# Altium footprint library KF2510.PcbLib: 16 footprints
Each footprint in its own frame and in the unit in brackets; x right, y up, seen from the top. Pads: shape width x height; smd on the part's side, far side on the other; paste and mask are expansions set on the pad; w line width, h text height; cw(c..) or ccw(c..) is an arc to the next point about the centre after c.
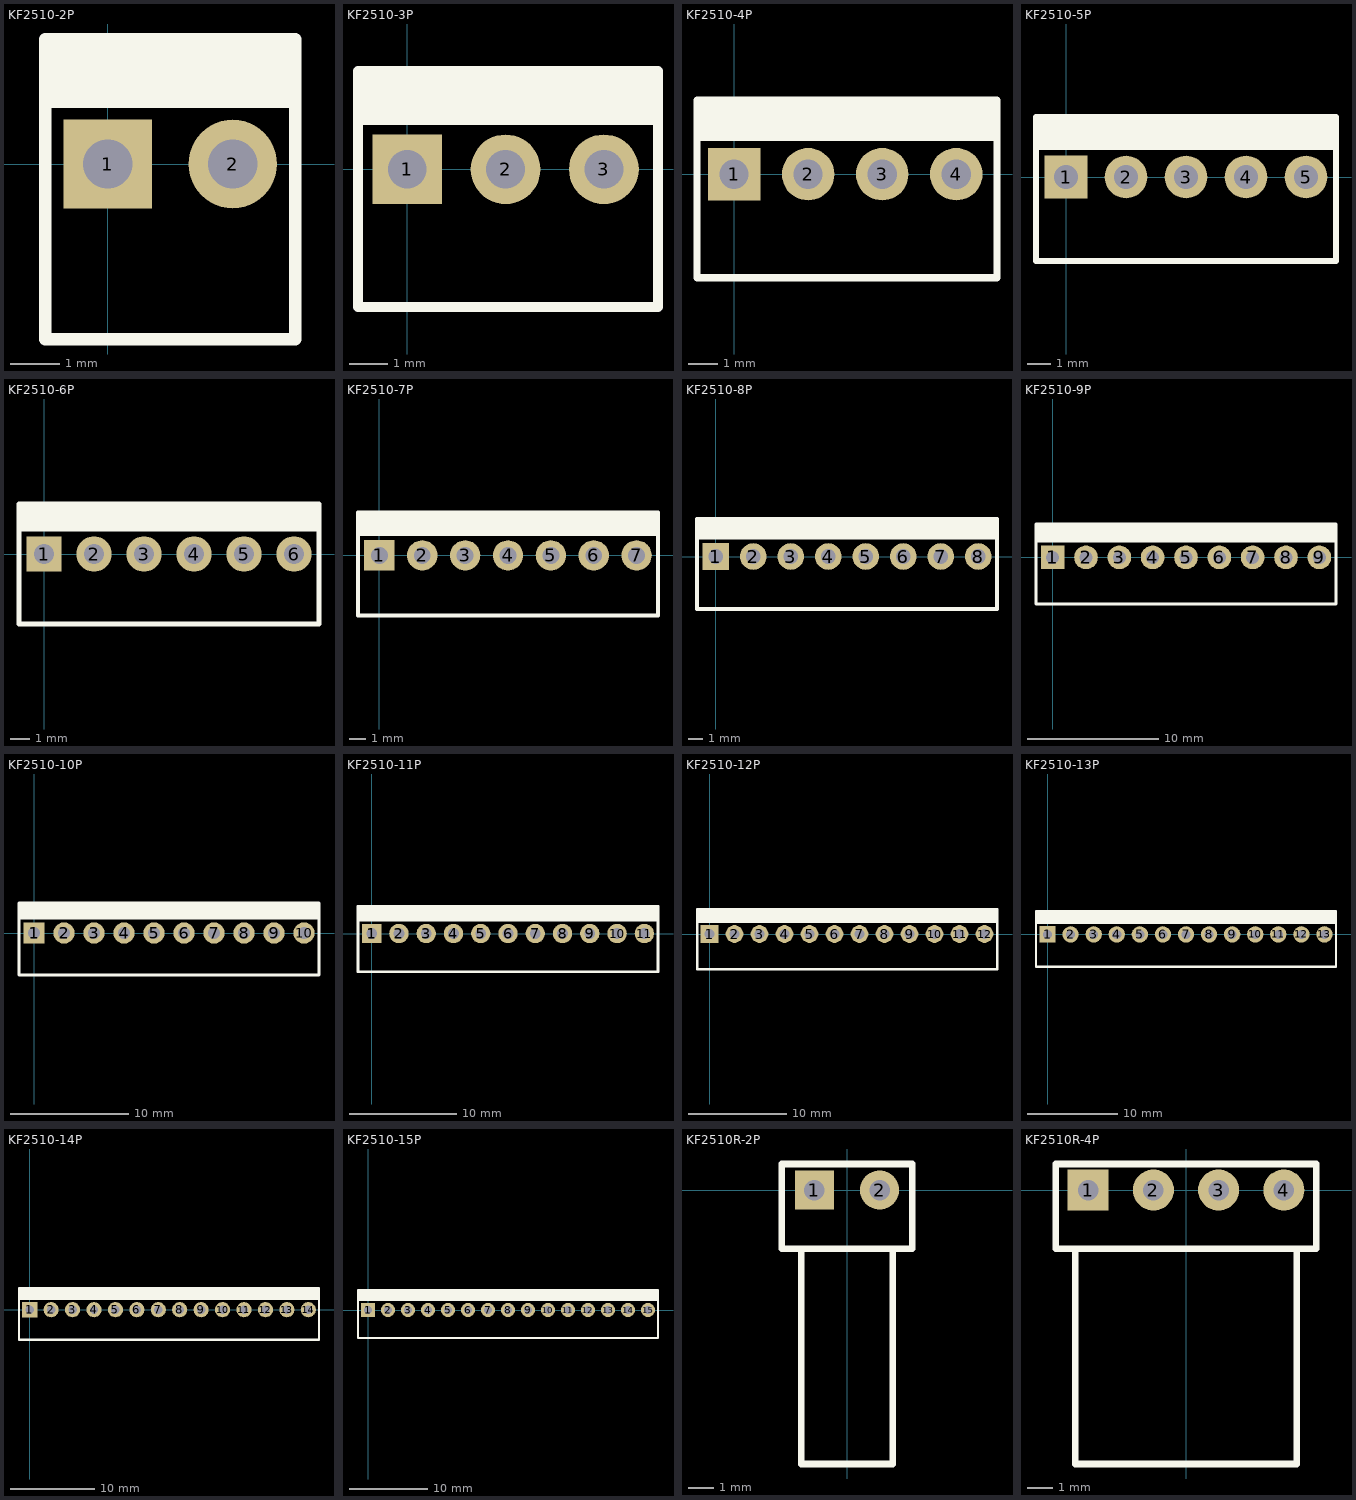
[diagram p0: the footprints below, top view; thin cyan lines are the x and y axes]

## KF2510-2P [mm]
height 11
pads (2):
  rect 1.8x1.8 hole 1: 1(0,0)
  round 1.8 hole 1: 2(2.54,0)
Top Overlay:
  rectangle: -1.321,1.27 3.759,2.54
  lines w0.254: -1.27,1.27 3.759,1.27 ; -1.27,-3.556 -1.27,2.54 3.81,2.54 3.81,-3.556 -1.27,-3.556
3D body "KF2510.STEP": height 11.05, standoff -2.95, extent 1.27,-3.585 3.81,2.315
3D body "KF2510.STEP": height 11.05, standoff -2.95, extent -1.27,-3.585 1.27,2.315

## KF2510-3P [mm]
pads (3):
  rect 1.8x1.8 hole 1: 1(0,0)
  round 1.8 hole 1: 2(2.54,0) 3(5.08,0)
Top Overlay:
  rectangle: -1.27,1.27 6.477,2.54
  lines w0.254: -1.27,1.27 6.477,1.27 ; -1.27,-3.556 -1.27,2.54 6.477,2.54 6.477,-3.556 -1.27,-3.556
3D body "KF2510.STEP": height 11.05, standoff -2.95, extent 3.81,-3.585 6.35,2.315
3D body "KF2510.STEP": height 11.05, standoff -2.95, extent -1.27,-3.585 1.27,2.315
3D body "KF2510.STEP": height 11.05, standoff -2.95, extent 1.27,-3.585 3.81,2.315

## KF2510-4P [mm]
pads (4):
  rect 1.8x1.8 hole 1: 1(0,0)
  round 1.8 hole 1: 2(2.54,0) 3(5.08,0) 4(7.62,0)
Top Overlay:
  rectangle: -1.27,1.27 9.017,2.54
  lines w0.254: -1.27,1.27 9.017,1.27 ; -1.27,-3.556 -1.27,2.54 9.017,2.54 9.017,-3.556 -1.27,-3.556
3D body "KF2510.STEP": height 11.05, standoff -2.95, extent 1.27,-3.585 3.81,2.315
3D body "KF2510.STEP": height 11.05, standoff -2.95, extent -1.27,-3.585 1.27,2.315
3D body "KF2510.STEP": height 11.05, standoff -2.95, extent 3.81,-3.585 6.35,2.315
3D body "KF2510.STEP": height 11.05, standoff -2.95, extent 6.35,-3.585 8.89,2.315

## KF2510-5P [mm]
pads (5):
  rect 1.8x1.8 hole 1: 1(0,0)
  round 1.8 hole 1: 2(2.54,0) 3(5.08,0) 4(7.62,0) 5(10.16,0)
Top Overlay:
  rectangle: -1.27,1.27 11.43,2.538
  lines w0.254: -1.27,1.27 11.43,1.27 ; -1.27,-3.556 -1.27,2.54 11.43,2.54 11.43,-3.556 -1.27,-3.556
3D body "KF2510.STEP": height 11.05, standoff -2.95, extent 6.35,-3.585 8.89,2.315
3D body "KF2510.STEP": height 11.05, standoff -2.95, extent 8.89,-3.585 11.43,2.315
3D body "KF2510.STEP": height 11.05, standoff -2.95, extent 3.81,-3.585 6.35,2.315
3D body "KF2510.STEP": height 11.05, standoff -2.95, extent -1.27,-3.585 1.27,2.315
3D body "KF2510.STEP": height 11.05, standoff -2.95, extent 1.27,-3.585 3.81,2.315

## KF2510-6P [mm]
pads (6):
  rect 1.8x1.8 hole 1: 1(0,0)
  round 1.8 hole 1: 2(2.54,0) 3(5.08,0) 4(7.62,0) 5(10.16,0) 6(12.7,0)
Top Overlay:
  rectangle: -1.27,1.27 13.97,2.54
  lines w0.254: -1.27,1.27 13.97,1.27 ; -1.27,-3.556 13.97,-3.556 13.97,2.54 -1.27,2.54 -1.27,-3.556
3D body "KF2510.STEP": height 11.05, standoff -2.95, extent 1.27,-3.585 3.81,2.315
3D body "KF2510.STEP": height 11.05, standoff -2.95, extent -1.27,-3.585 1.27,2.315
3D body "KF2510.STEP": height 11.05, standoff -2.95, extent 3.81,-3.585 6.35,2.315
3D body "KF2510.STEP": height 11.05, standoff -2.95, extent 8.89,-3.585 11.43,2.315
3D body "KF2510.STEP": height 11.05, standoff -2.95, extent 6.35,-3.585 8.89,2.315
3D body "KF2510.STEP": height 11.05, standoff -2.95, extent 11.43,-3.585 13.97,2.315

## KF2510-7P [mm]
pads (7):
  rect 1.8x1.8 hole 1: 1(0,0)
  round 1.8 hole 1: 2(2.54,0) 3(5.08,0) 4(7.62,0) 5(10.16,0) 6(12.7,0) 7(15.24,0)
Top Overlay:
  rectangle: -1.27,1.27 16.51,2.54
  lines w0.254: -1.27,1.27 16.51,1.27 ; -1.27,-3.556 16.51,-3.556 16.51,2.54 -1.27,2.54 -1.27,-3.556
3D body "KF2510.STEP": height 11.05, standoff -2.95, extent 1.27,-3.585 3.81,2.315
3D body "KF2510.STEP": height 11.05, standoff -2.95, extent -1.27,-3.585 1.27,2.315
3D body "KF2510.STEP": height 11.05, standoff -2.95, extent 3.81,-3.585 6.35,2.315
3D body "KF2510.STEP": height 11.05, standoff -2.95, extent 8.89,-3.585 11.43,2.315
3D body "KF2510.STEP": height 11.05, standoff -2.95, extent 6.35,-3.585 8.89,2.315
3D body "KF2510.STEP": height 11.05, standoff -2.95, extent 11.43,-3.585 13.97,2.315
3D body "KF2510.STEP": height 11.05, standoff -2.95, extent 13.97,-3.585 16.51,2.315

## KF2510-8P [mm]
pads (8):
  rect 1.8x1.8 hole 1: 1(0,0)
  round 1.8 hole 1: 2(2.54,0) 3(5.08,0) 4(7.62,0) 5(10.16,0) 6(12.7,0) 7(15.24,0) 8(17.78,0)
Top Overlay:
  rectangle: -1.27,1.27 19.05,2.54
  lines w0.254: -1.27,1.27 19.05,1.27 ; -1.27,-3.556 19.05,-3.556 19.05,2.54 -1.27,2.54 -1.27,-3.556
3D body "KF2510.STEP": height 11.05, standoff -2.95, extent 1.27,-3.585 3.81,2.315
3D body "KF2510.STEP": height 11.05, standoff -2.95, extent -1.27,-3.585 1.27,2.315
3D body "KF2510.STEP": height 11.05, standoff -2.95, extent 3.81,-3.585 6.35,2.315
3D body "KF2510.STEP": height 11.05, standoff -2.95, extent 8.89,-3.585 11.43,2.315
3D body "KF2510.STEP": height 11.05, standoff -2.95, extent 6.35,-3.585 8.89,2.315
3D body "KF2510.STEP": height 11.05, standoff -2.95, extent 11.43,-3.585 13.97,2.315
3D body "KF2510.STEP": height 11.05, standoff -2.95, extent 16.51,-3.585 19.05,2.315
3D body "KF2510.STEP": height 11.05, standoff -2.95, extent 13.97,-3.585 16.51,2.315

## KF2510-9P [mm]
pads (9):
  rect 1.8x1.8 hole 1: 1(0,0)
  round 1.8 hole 1: 2(2.54,0) 3(5.08,0) 4(7.62,0) 5(10.16,0) 6(12.7,0) 7(15.24,0) 8(17.78,0) 9(20.32,0)
Top Overlay:
  rectangle: -1.27,1.27 21.59,2.54
  lines w0.254: -1.27,1.27 21.59,1.27 ; -1.27,-3.556 -1.27,2.54 21.59,2.54 21.59,-3.556 -1.27,-3.556
3D body "KF2510.STEP": height 11.05, standoff -2.95, extent 19.05,-3.585 21.59,2.315
3D body "KF2510.STEP": height 11.05, standoff -2.95, extent 13.97,-3.585 16.51,2.315
3D body "KF2510.STEP": height 11.05, standoff -2.95, extent 16.51,-3.585 19.05,2.315
3D body "KF2510.STEP": height 11.05, standoff -2.95, extent 11.43,-3.585 13.97,2.315
3D body "KF2510.STEP": height 11.05, standoff -2.95, extent 6.35,-3.585 8.89,2.315
3D body "KF2510.STEP": height 11.05, standoff -2.95, extent 8.89,-3.585 11.43,2.315
3D body "KF2510.STEP": height 11.05, standoff -2.95, extent 3.81,-3.585 6.35,2.315
3D body "KF2510.STEP": height 11.05, standoff -2.95, extent -1.27,-3.585 1.27,2.315
3D body "KF2510.STEP": height 11.05, standoff -2.95, extent 1.27,-3.585 3.81,2.315

## KF2510-10P [mm]
pads (10):
  rect 1.8x1.8 hole 1: 1(0,0)
  round 1.8 hole 1: 2(2.54,0) 3(5.08,0) 4(7.62,0) 5(10.16,0) 6(12.7,0) 7(15.24,0) 8(17.78,0) 9(20.32,0) 10(22.86,0)
Top Overlay:
  rectangle: -1.27,1.27 24.13,2.54
  lines w0.254: -1.27,1.27 24.13,1.27 ; -1.27,-3.556 -1.27,2.54 24.13,2.54 24.13,-3.556 -1.27,-3.556
3D body "KF2510.STEP": height 11.05, standoff -2.95, extent 21.59,-3.585 24.13,2.315
3D body "KF2510.STEP": height 11.05, standoff -2.95, extent 19.05,-3.585 21.59,2.315
3D body "KF2510.STEP": height 11.05, standoff -2.95, extent 13.97,-3.585 16.51,2.315
3D body "KF2510.STEP": height 11.05, standoff -2.95, extent 16.51,-3.585 19.05,2.315
3D body "KF2510.STEP": height 11.05, standoff -2.95, extent 11.43,-3.585 13.97,2.315
3D body "KF2510.STEP": height 11.05, standoff -2.95, extent 6.35,-3.585 8.89,2.315
3D body "KF2510.STEP": height 11.05, standoff -2.95, extent 8.89,-3.585 11.43,2.315
3D body "KF2510.STEP": height 11.05, standoff -2.95, extent 3.81,-3.585 6.35,2.315
3D body "KF2510.STEP": height 11.05, standoff -2.95, extent -1.27,-3.585 1.27,2.315
3D body "KF2510.STEP": height 11.05, standoff -2.95, extent 1.27,-3.585 3.81,2.315

## KF2510-11P [mm]
pads (11):
  rect 1.8x1.8 hole 1: 1(0,0)
  round 1.8 hole 1: 2(2.54,0) 3(5.08,0) 4(7.62,0) 5(10.16,0) 6(12.7,0) 7(15.24,0) 8(17.78,0) 9(20.32,0) 10(22.86,0) 11(25.4,0)
Top Overlay:
  rectangle: -1.27,1.27 26.67,2.54
  lines w0.254: -1.27,1.27 26.67,1.27 ; -1.27,-3.556 26.67,-3.556 26.67,2.54 -1.27,2.54 -1.27,-3.556
3D body "KF2510.STEP": height 11.05, standoff -2.95, extent 21.59,-3.585 24.13,2.315
3D body "KF2510.STEP": height 11.05, standoff -2.95, extent 24.13,-3.585 26.67,2.315
3D body "KF2510.STEP": height 11.05, standoff -2.95, extent 19.05,-3.585 21.59,2.315
3D body "KF2510.STEP": height 11.05, standoff -2.95, extent 13.97,-3.585 16.51,2.315
3D body "KF2510.STEP": height 11.05, standoff -2.95, extent 16.51,-3.585 19.05,2.315
3D body "KF2510.STEP": height 11.05, standoff -2.95, extent 11.43,-3.585 13.97,2.315
3D body "KF2510.STEP": height 11.05, standoff -2.95, extent 6.35,-3.585 8.89,2.315
3D body "KF2510.STEP": height 11.05, standoff -2.95, extent 8.89,-3.585 11.43,2.315
3D body "KF2510.STEP": height 11.05, standoff -2.95, extent 3.81,-3.585 6.35,2.315
3D body "KF2510.STEP": height 11.05, standoff -2.95, extent -1.27,-3.585 1.27,2.315
3D body "KF2510.STEP": height 11.05, standoff -2.95, extent 1.27,-3.585 3.81,2.315

## KF2510-12P [mm]
pads (12):
  rect 1.8x1.8 hole 1: 1(0,0)
  round 1.8 hole 1: 2(2.54,0) 3(5.08,0) 4(7.62,0) 5(10.16,0) 6(12.7,0) 7(15.24,0) 8(17.78,0) 9(20.32,0) 10(22.86,0) 11(25.4,0) 12(27.94,0)
Top Overlay:
  rectangle: -1.27,1.27 29.21,2.54
  lines w0.254: -1.27,1.27 29.21,1.27 ; -1.27,-3.556 -1.27,2.54 29.21,2.54 29.21,-3.556 -1.27,-3.556
3D body "KF2510.STEP": height 11.05, standoff -2.95, extent 26.67,-3.585 29.21,2.315
3D body "KF2510.STEP": height 11.05, standoff -2.95, extent 21.59,-3.585 24.13,2.315
3D body "KF2510.STEP": height 11.05, standoff -2.95, extent 24.13,-3.585 26.67,2.315
3D body "KF2510.STEP": height 11.05, standoff -2.95, extent 19.05,-3.585 21.59,2.315
3D body "KF2510.STEP": height 11.05, standoff -2.95, extent 13.97,-3.585 16.51,2.315
3D body "KF2510.STEP": height 11.05, standoff -2.95, extent 16.51,-3.585 19.05,2.315
3D body "KF2510.STEP": height 11.05, standoff -2.95, extent 11.43,-3.585 13.97,2.315
3D body "KF2510.STEP": height 11.05, standoff -2.95, extent 6.35,-3.585 8.89,2.315
3D body "KF2510.STEP": height 11.05, standoff -2.95, extent 8.89,-3.585 11.43,2.315
3D body "KF2510.STEP": height 11.05, standoff -2.95, extent 3.81,-3.585 6.35,2.315
3D body "KF2510.STEP": height 11.05, standoff -2.95, extent -1.27,-3.585 1.27,2.315
3D body "KF2510.STEP": height 11.05, standoff -2.95, extent 1.27,-3.585 3.81,2.315

## KF2510-13P [mm]
pads (13):
  rect 1.8x1.8 hole 1: 1(0,0)
  round 1.8 hole 1: 2(2.54,0) 3(5.08,0) 4(7.62,0) 5(10.16,0) 6(12.7,0) 7(15.24,0) 8(17.78,0) 9(20.32,0) 10(22.86,0) 11(25.4,0) 12(27.94,0) 13(30.48,0)
Top Overlay:
  rectangle: -1.27,1.27 31.75,2.54
  lines w0.254: -1.27,1.27 31.75,1.27 ; -1.27,-3.556 31.75,-3.556 31.75,2.54 -1.27,2.54 -1.27,-3.556
3D body "KF2510.STEP": height 11.05, standoff -2.95, extent 1.27,-3.585 3.81,2.315
3D body "KF2510.STEP": height 11.05, standoff -2.95, extent -1.27,-3.585 1.27,2.315
3D body "KF2510.STEP": height 11.05, standoff -2.95, extent 3.81,-3.585 6.35,2.315
3D body "KF2510.STEP": height 11.05, standoff -2.95, extent 8.89,-3.585 11.43,2.315
3D body "KF2510.STEP": height 11.05, standoff -2.95, extent 6.35,-3.585 8.89,2.315
3D body "KF2510.STEP": height 11.05, standoff -2.95, extent 11.43,-3.585 13.97,2.315
3D body "KF2510.STEP": height 11.05, standoff -2.95, extent 16.51,-3.585 19.05,2.315
3D body "KF2510.STEP": height 11.05, standoff -2.95, extent 13.97,-3.585 16.51,2.315
3D body "KF2510.STEP": height 11.05, standoff -2.95, extent 19.05,-3.585 21.59,2.315
3D body "KF2510.STEP": height 11.05, standoff -2.95, extent 24.13,-3.585 26.67,2.315
3D body "KF2510.STEP": height 11.05, standoff -2.95, extent 21.59,-3.585 24.13,2.315
3D body "KF2510.STEP": height 11.05, standoff -2.95, extent 26.67,-3.585 29.21,2.315
3D body "KF2510.STEP": height 11.05, standoff -2.95, extent 29.21,-3.585 31.75,2.315

## KF2510-14P [mm]
pads (14):
  rect 1.8x1.8 hole 1: 1(0,0)
  round 1.8 hole 1: 2(2.54,0) 3(5.08,0) 4(7.62,0) 5(10.16,0) 6(12.7,0) 7(15.24,0) 8(17.78,0) 9(20.32,0) 10(22.86,0) 11(25.4,0) 12(27.94,0) 13(30.48,0) 14(33.02,0)
Top Overlay:
  rectangle: -1.27,1.27 34.29,2.54
  lines w0.254: -1.27,1.27 34.29,1.27 ; -1.27,-3.556 -1.27,2.54 34.29,2.54 34.29,-3.556 -1.27,-3.556
3D body "KF2510.STEP": height 11.05, standoff -2.95, extent 1.27,-3.585 3.81,2.315
3D body "KF2510.STEP": height 11.05, standoff -2.95, extent -1.27,-3.585 1.27,2.315
3D body "KF2510.STEP": height 11.05, standoff -2.95, extent 3.81,-3.585 6.35,2.315
3D body "KF2510.STEP": height 11.05, standoff -2.95, extent 8.89,-3.585 11.43,2.315
3D body "KF2510.STEP": height 11.05, standoff -2.95, extent 6.35,-3.585 8.89,2.315
3D body "KF2510.STEP": height 11.05, standoff -2.95, extent 11.43,-3.585 13.97,2.315
3D body "KF2510.STEP": height 11.05, standoff -2.95, extent 16.51,-3.585 19.05,2.315
3D body "KF2510.STEP": height 11.05, standoff -2.95, extent 13.97,-3.585 16.51,2.315
3D body "KF2510.STEP": height 11.05, standoff -2.95, extent 19.05,-3.585 21.59,2.315
3D body "KF2510.STEP": height 11.05, standoff -2.95, extent 24.13,-3.585 26.67,2.315
3D body "KF2510.STEP": height 11.05, standoff -2.95, extent 21.59,-3.585 24.13,2.315
3D body "KF2510.STEP": height 11.05, standoff -2.95, extent 26.67,-3.585 29.21,2.315
3D body "KF2510.STEP": height 11.05, standoff -2.95, extent 31.75,-3.585 34.29,2.315
3D body "KF2510.STEP": height 11.05, standoff -2.95, extent 29.21,-3.585 31.75,2.315

## KF2510-15P [mm]
pads (15):
  rect 1.8x1.8 hole 1: 1(0,0)
  round 1.8 hole 1: 2(2.54,0) 3(5.08,0) 4(7.62,0) 5(10.16,0) 6(12.7,0) 7(15.24,0) 8(17.78,0) 9(20.32,0) 10(22.86,0) 11(25.4,0) 12(27.94,0) 13(30.48,0) 14(33.02,0) 15(35.56,0)
Top Overlay:
  rectangle: -1.27,1.27 36.83,2.54
  lines w0.254: -1.27,1.27 36.83,1.27 ; -1.27,-3.556 36.83,-3.556 36.83,2.54 -1.27,2.54 -1.27,-3.556
3D body "KF2510.STEP": height 11.05, standoff -2.95, extent 34.29,-3.585 36.83,2.315
3D body "KF2510.STEP": height 11.05, standoff -2.95, extent 29.21,-3.585 31.75,2.315
3D body "KF2510.STEP": height 11.05, standoff -2.95, extent 31.75,-3.585 34.29,2.315
3D body "KF2510.STEP": height 11.05, standoff -2.95, extent 26.67,-3.585 29.21,2.315
3D body "KF2510.STEP": height 11.05, standoff -2.95, extent 21.59,-3.585 24.13,2.315
3D body "KF2510.STEP": height 11.05, standoff -2.95, extent 24.13,-3.585 26.67,2.315
3D body "KF2510.STEP": height 11.05, standoff -2.95, extent 19.05,-3.585 21.59,2.315
3D body "KF2510.STEP": height 11.05, standoff -2.95, extent 13.97,-3.585 16.51,2.315
3D body "KF2510.STEP": height 11.05, standoff -2.95, extent 16.51,-3.585 19.05,2.315
3D body "KF2510.STEP": height 11.05, standoff -2.95, extent 11.43,-3.585 13.97,2.315
3D body "KF2510.STEP": height 11.05, standoff -2.95, extent 6.35,-3.585 8.89,2.315
3D body "KF2510.STEP": height 11.05, standoff -2.95, extent 8.89,-3.585 11.43,2.315
3D body "KF2510.STEP": height 11.05, standoff -2.95, extent 3.81,-3.585 6.35,2.315
3D body "KF2510.STEP": height 11.05, standoff -2.95, extent -1.27,-3.585 1.27,2.315
3D body "KF2510.STEP": height 11.05, standoff -2.95, extent 1.27,-3.585 3.81,2.315

## KF2510R-2P [mil]
pads (2):
  rect 60x60 hole 31.5: 1(-50,0)
  round 60 hole 31.5: 2(50,0)
Top Overlay:
  lines w10: -70,-90 -70,-420 70,-420 70,-90 ; -100,-90 100,-90 100,40 -100,40 -100,-90
3D body "KF2510R-2P.step": height 234.25, standoff -110.24, extent -104.21,-433.82 95,15

## KF2510R-4P [mm]
pads (4):
  rect 1.6x1.6 hole 0.8: 1(-3.81,0)
  round 1.6 hole 0.8: 2(-1.27,0) 3(1.27,0) 4(3.81,0)
Top Overlay:
  lines w0.254: -4.318,-2.286 -4.318,-10.668 4.318,-10.668 4.318,-2.286 ; -5.08,-2.286 -5.08,1.016 5.08,1.016 5.08,-2.286 -5.08,-2.286
3D body "KF2510R-4P.step": height 5.95, standoff -2.8, extent -5.04,-10.78 5.08,0.62